# Altium footprint library Würth-Elektronik.PcbLib: 79 footprints (part 1 of 5)
Each footprint in its own frame and in the unit in brackets; x right, y up, seen from the top. Pads: shape width x height; smd on the part's side, far side on the other; paste and mask are expansions set on the pad; w line width, h text height; cw(c..) or ccw(c..) is an arc to the next point about the centre after c.
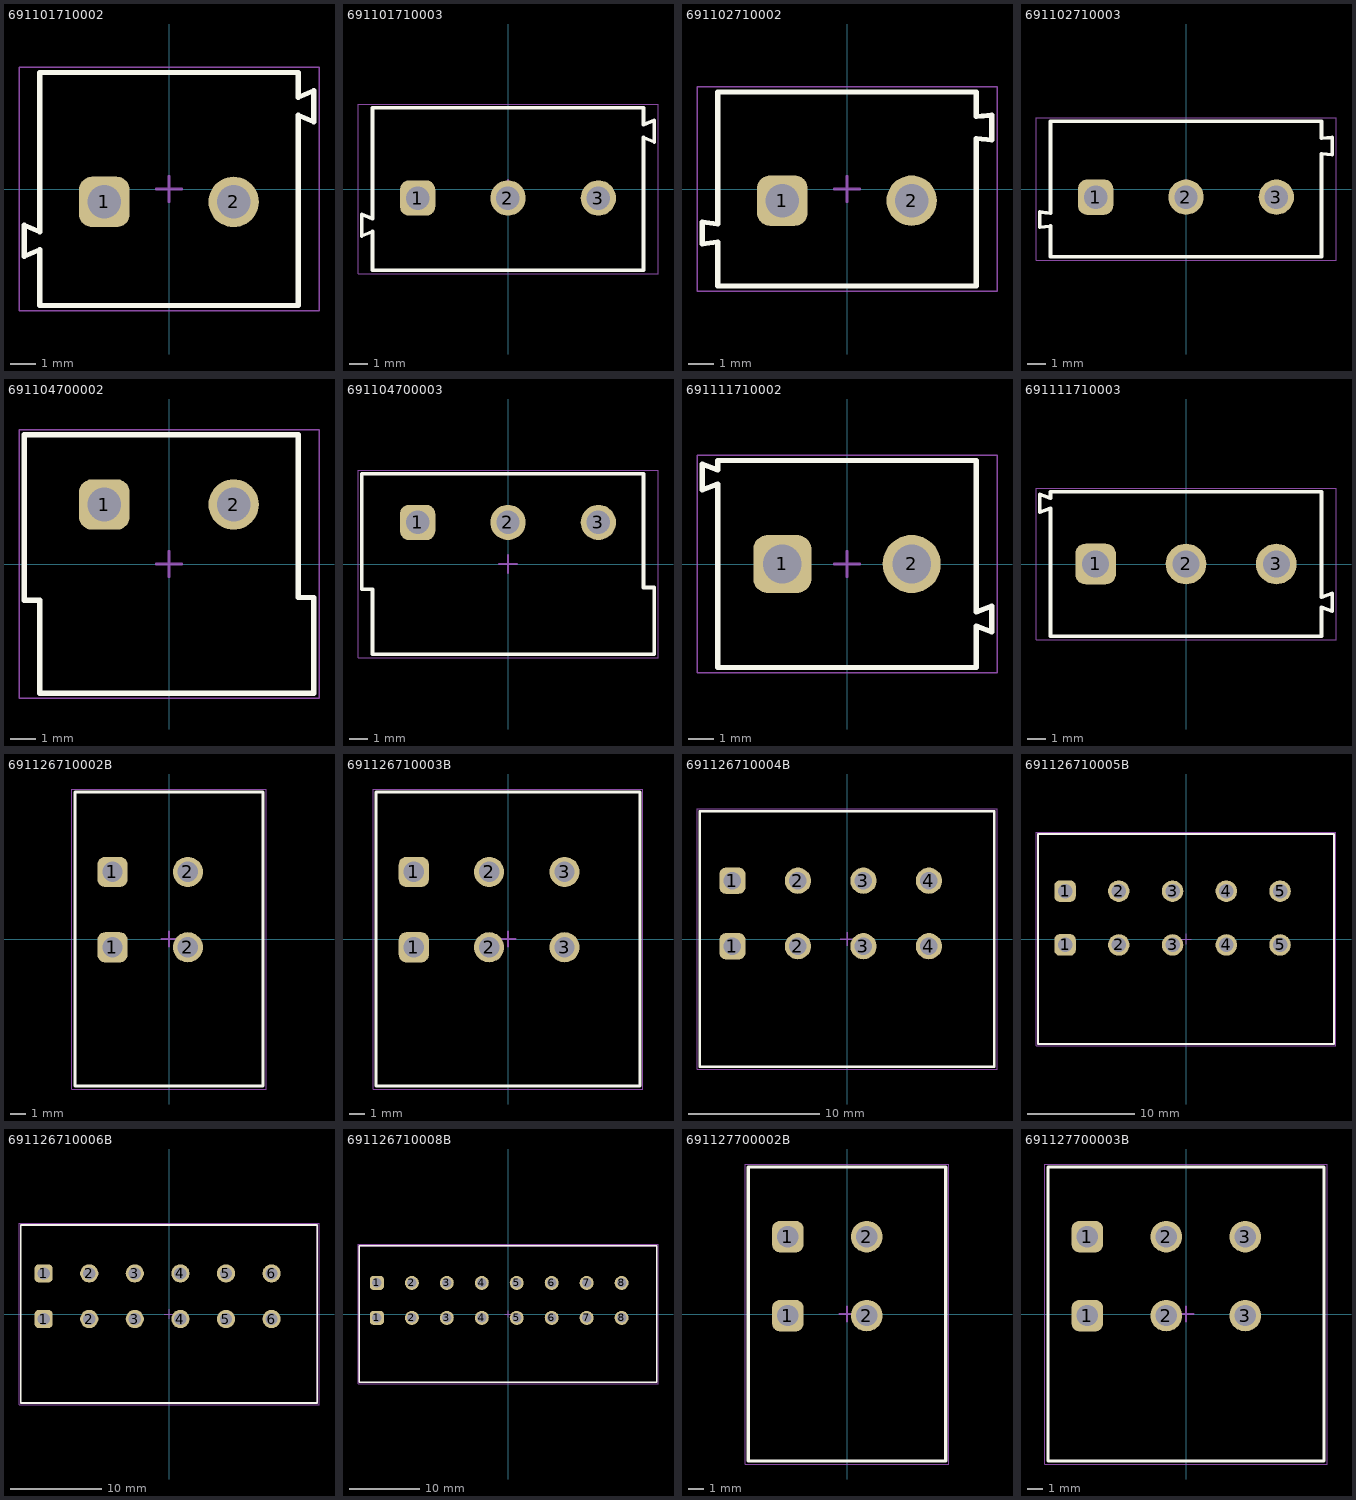
[diagram p0: the footprints below, top view; thin cyan lines are the x and y axes]

## 691101710002 [mm] "5,00mm - modular - blue - Horizontal entry with pressure clamp - 12,6mm height - 02p"
height 12.6
pads (2):
  rrect50% 1.95x1.95 hole 1.3: 1(-2.5,-0.5)
  round 1.95 hole 1.3: 2(2.5,-0.5)
Top Overlay:
  lines w0.2: -5,-2.35 -5.6,-2.6 -5.6,-1.4 -5,-1.65 -5,4.5 5,4.5 5,3.55 5.6,3.8 5.6,2.6 5,2.85 5,-4.5 -5,-4.5 -5,-2.35
Top Courtyard:
  lines w0.05: -5.8,-4.7 5.8,-4.7 5.8,4.7 -5.8,4.7 -5.8,-4.7
Top 3D Body:
  lines w0.1: -5,-2.35 -5.6,-2.6 -5.6,-1.4 -5,-1.65 -5,4.5 5,4.5 5,3.55 5.6,3.8 5.6,2.6 5,2.85 5,-4.5 -5,-4.5 -5,-2.35
Top Assembly:
  lines w0.1: -5,-2.35 -5.6,-2.6 -5.6,-1.4 -5,-1.65 -5,4.5 5,4.5 5,3.55 5.6,3.8 5.6,2.6 5,2.85 5,-4.5 -5,-4.5 -5,-2.35
Top Designator:
  text ".Designator" at -3.647,-0.357 h1
Top Component Center:
  lines w0.1: -0.5,0 0.5,0 ; 0,-0.5 0,0.5
3D body "691101710002.stp": height 12.65, standoff -3.75, extent -5.6,-4.5 5.6,4.5

## 691101710003 [mm] "5,00mm - modular - blue - Horizontal entry with pressure clamp - 12,6mm height - 03p"
height 12.6
pads (3):
  rrect50% 1.95x1.95 hole 1.3: 1(-5,-0.5)
  round 1.95 hole 1.3: 2(0,-0.5) 3(5,-0.5)
Top Overlay:
  lines w0.2: -7.5,-2.35 -8.1,-2.6 -8.1,-1.4 -7.5,-1.65 -7.5,4.5 7.5,4.5 7.5,3.55 8.1,3.8 8.1,2.6 7.5,2.85 7.5,-4.5 -7.5,-4.5 -7.5,-2.35
Top Courtyard:
  lines w0.05: -8.3,-4.7 -8.3,4.7 8.3,4.7 8.3,-4.7 -8.3,-4.7
Top 3D Body:
  lines w0.1: -7.5,-2.35 -8.1,-2.6 -8.1,-1.4 -7.5,-1.65 -7.5,4.5 7.5,4.5 7.5,3.55 8.1,3.8 8.1,2.6 7.5,2.85 7.5,-4.5 -7.5,-4.5 -7.5,-2.35
Top Assembly:
  lines w0.1: -7.5,-2.35 -8.1,-2.6 -8.1,-1.4 -7.5,-1.65 -7.5,4.5 7.5,4.5 7.5,3.55 8.1,3.8 8.1,2.6 7.5,2.85 7.5,-4.5 -7.5,-4.5 -7.5,-2.35
Top Designator:
  text ".Designator" at -3.647,-0.357 h1
Top Component Center:
  lines w0.1: -0.5,0 0.5,0 ; 0,-0.5 0,0.5
3D body "691101710003.stp": height 12.65, standoff -3.75, extent -8.1,-4.5 8.1,4.5

## 691102710002 [mm] "5,00mm - modular - blue - Horizontal entry with pressure clamp - 9,9 mm height - 02p"
height 9.9
pads (2):
  rrect50% 1.95x1.95 hole 1.3: 1(-2.5,-0.45)
  round 1.95 hole 1.3: 2(2.5,-0.45)
Top Overlay:
  lines w0.2: -5.6,-2.125 -5.6,-1.275 -5,-1.35 -5,3.75 5,3.75 5,2.8 5.6,2.85 5.6,1.9 5,1.95 5,-3.75 -5,-3.75 -5,-2.05 -5.6,-2.125
Top Courtyard:
  lines w0.05: -5.8,-3.95 -5.8,3.95 5.8,3.95 5.8,-3.95 -5.8,-3.95
Top 3D Body:
  lines w0.1: -5.6,-2.125 -5.6,-1.275 -5,-1.35 -5,3.75 5,3.75 5,2.8 5.6,2.85 5.6,1.9 5,1.95 5,-3.75 -5,-3.75 -5,-2.05 -5.6,-2.125
Top Assembly:
  lines w0.1: -5.6,-2.125 -5,-2.05 -5,-3.75 5,-3.75 5,1.95 5.6,1.9 5.6,2.85 5,2.8 5,3.75 -5,3.75 -5,-1.35 -5.6,-1.275 -5.6,-2.125
Top Designator:
  text ".Designator" at -3.647,-0.357 h1
Top Component Center:
  lines w0.1: -0.5,0 0.5,0 ; 0,-0.5 0,0.5
3D body "691102710002.stp": height 9.96, standoff -3.44, extent -5.6,-3.75 5.6,3.75

## 691102710003 [mm] "5,00mm - modular - blue - Horizontal entry with pressure clamp - 9,9 mm height - 03p"
height 9.9
pads (3):
  rrect50% 1.95x1.95 hole 1.3: 1(-5,-0.45)
  round 1.95 hole 1.3: 2(0,-0.45) 3(5,-0.45)
Top Overlay:
  lines w0.2: -8.1,-2.125 -8.1,-1.275 -7.5,-1.35 -7.5,3.75 7.5,3.75 7.5,2.8 8.1,2.85 8.1,1.9 7.5,1.95 7.5,-3.75 -7.5,-3.75 -7.5,-2.05 -8.1,-2.125
Top Courtyard:
  lines w0.05: -8.3,-3.95 -8.3,3.95 8.3,3.95 8.3,-3.95 -8.3,-3.95
Top 3D Body:
  lines w0.1: -8.1,-2.125 -8.1,-1.275 -7.5,-1.35 -7.5,3.75 7.5,3.75 7.5,2.8 8.1,2.85 8.1,1.9 7.5,1.95 7.5,-3.75 -7.5,-3.75 -7.5,-2.05 -8.1,-2.125
Top Assembly:
  lines w0.1: -8.1,-2.125 -7.5,-2.05 -7.5,-3.75 7.5,-3.75 7.5,1.95 8.1,1.9 8.1,2.85 7.5,2.8 7.5,3.75 -7.5,3.75 -7.5,-1.35 -8.1,-1.275 -8.1,-2.125
Top Designator:
  text ".Designator" at -3.647,-0.357 h1
Top Component Center:
  lines w0.1: -0.5,0 0.5,0 ; 0,-0.5 0,0.5
3D body "691102710003.stp": height 9.96, standoff -3.44, extent -8.1,-3.75 8.1,3.75

## 691104700002 [mm] ",00mm - modular - blue - Vertical wire entry - Pressure clamp - 02p"
height 10
pads (2):
  rrect50% 1.95x1.95 hole 1.3: 1(-2.5,2.3)
  round 1.95 hole 1.3: 2(2.5,2.3)
Top Overlay:
  lines w0.2: -5.6,-1.4 -5,-1.4 -5,-5 5.6,-5 5.6,-1.3 5,-1.3 5,5 -5.6,5 -5.6,-1.4
Top Courtyard:
  lines w0.05: -5.8,-5.2 -5.8,5.2 5.8,5.2 5.8,-5.2 -5.8,-5.2
Top 3D Body:
  lines w0.1: -5.6,-1.4 -5,-1.4 -5,-5 5.6,-5 5.6,-1.3 5,-1.3 5,5 -5.6,5 -5.6,-1.4
Top Assembly:
  lines w0.1: -5.6,-1.4 -5.6,5 5,5 5,-1.3 5.6,-1.3 5.6,-5 -5,-5 -5,-1.4 -5.6,-1.4
Top Designator:
  text ".Designator" at -3.647,-0.357 h1
Top Component Center:
  lines w0.1: -0.5,0 0.5,0 ; 0,-0.5 0,0.5
3D body "691104700002.stp": height 7.55, standoff -3.75, extent -5.6,-5 5.6,5

## 691104700003 [mm] ",00mm - modular - blue - Vertical wire entry - Pressure clamp - 03p"
height 10
pads (3):
  rrect50% 1.95x1.95 hole 1.3: 1(-5,2.3)
  round 1.95 hole 1.3: 2(0,2.3) 3(5,2.3)
Top Overlay:
  lines w0.2: -8.1,-1.4 -8.1,5 7.5,5 7.5,-1.3 8.1,-1.3 8.1,-5 -7.5,-5 -7.5,-1.4 -8.1,-1.4
Top Courtyard:
  lines w0.05: -8.3,-5.2 -8.3,5.2 8.3,5.2 8.3,-5.2 -8.3,-5.2
Top 3D Body:
  lines w0.1: -8.1,-1.4 -8.1,5 7.5,5 7.5,-1.3 8.1,-1.3 8.1,-5 -7.5,-5 -7.5,-1.4 -8.1,-1.4
Top Assembly:
  lines w0.1: -8.1,-1.4 -7.5,-1.4 -7.5,-5 8.1,-5 8.1,-1.3 7.5,-1.3 7.5,5 -8.1,5 -8.1,-1.4
Top Designator:
  text ".Designator" at -3.647,-0.357 h1
Top Component Center:
  lines w0.1: -0.5,0 0.5,0 ; 0,-0.5 0,0.5
3D body "691104700003.stp": height 7.55, standoff -3.75, extent -8.1,-5 8.1,5

## 691111710002 [mm] "5,00mm - modular - green - Horizontal entry with pressure clamp - 10,0mm height - 02p"
height 10
pads (2):
  rrect50% 2.25x2.25 hole 1.5: 1(-2.5,0)
  round 2.25 hole 1.5: 2(2.5,0)
Top Overlay:
  lines w0.2: -5.6,2.865 -5.6,3.865 -5,3.64 -5,4 5,4 5,-1.85 5.6,-1.625 5.6,-2.625 5,-2.4 5,-4 -5,-4 -5,3.09 -5.6,2.865
Top Courtyard:
  lines w0.05: -5.8,-4.2 5.8,-4.2 5.8,4.2 -5.8,4.2 -5.8,-4.2
Top 3D Body:
  lines w0.1: -5.6,2.865 -5.6,3.865 -5,3.64 -5,4 5,4 5,-1.85 5.6,-1.625 5.6,-2.625 5,-2.4 5,-4 -5,-4 -5,3.09 -5.6,2.865
Top Assembly:
  lines w0.1: -5.6,2.865 -5,3.09 -5,-4 5,-4 5,-2.4 5.6,-2.625 5.6,-1.625 5,-1.85 5,4 -5,4 -5,3.64 -5.6,3.865 -5.6,2.865
Top Designator:
  text ".Designator" at -3.647,-0.357 h1
Top Component Center:
  lines w0.1: -0.5,0 0.5,0 ; 0,-0.5 0,0.5
3D body "691111710002.stp": height 11.05, standoff -3.95, extent -5.6,-4 5.6,4

## 691111710003 [mm] "5,00mm - modular - green - Horizontal entry with pressure clamp - 10,0mm height - 03p"
height 10
pads (3):
  rrect50% 2.25x2.25 hole 1.5: 1(-5,0)
  round 2.25 hole 1.5: 2(0,0) 3(5,0)
Top Overlay:
  lines w0.2: -8.1,2.865 -7.5,3.09 -7.5,-4 7.5,-4 7.5,-2.4 8.1,-2.625 8.1,-1.625 7.5,-1.85 7.5,4 -7.5,4 -7.5,3.64 -8.1,3.865 -8.1,2.865
Top Courtyard:
  lines w0.05: -8.3,-4.2 -8.3,4.2 8.3,4.2 8.3,-4.2 -8.3,-4.2
Top 3D Body:
  lines w0.1: -8.1,2.865 -7.5,3.09 -7.5,-4 7.5,-4 7.5,-2.4 8.1,-2.625 8.1,-1.625 7.5,-1.85 7.5,4 -7.5,4 -7.5,3.64 -8.1,3.865 -8.1,2.865
Top Assembly:
  lines w0.1: -8.1,2.865 -8.1,3.865 -7.5,3.64 -7.5,4 7.5,4 7.5,-1.85 8.1,-1.625 8.1,-2.625 7.5,-2.4 7.5,-4 -7.5,-4 -7.5,3.09 -8.1,2.865
Top Designator:
  text ".Designator" at -3.647,-0.357 h1
Top Component Center:
  lines w0.1: -0.5,0 0.5,0 ; 0,-0.5 0,0.5
3D body "691111710003.stp": height 11.05, standoff -3.95, extent -8.1,-4 8.1,4

## 691126710002B [mm] "5,00 mm - PCB Horizontal - 02p"
height 18.6
pads (4):
  rrect50% 2x2 hole 1.35: 1(-3.75,-0.55) 1(-3.75,4.45)
  round 2 hole 1.35: 2(1.25,-0.55) 2(1.25,4.45)
Top Overlay:
  lines w0.2: -6.25,-9.75 -6.25,9.75 6.25,9.75 6.25,-9.75 -6.25,-9.75
Top Courtyard:
  lines w0.05: -6.45,-9.95 -6.45,9.95 6.45,9.95 6.45,-9.95 -6.45,-9.95
Top 3D Body:
  lines w0.1: -6.25,-9.75 -6.25,9.75 6.25,9.75 6.25,-9.75 -6.25,-9.75
Top Assembly:
  lines w0.1: -6.25,-9.75 6.25,-9.75 6.25,9.75 -6.25,9.75 -6.25,-9.75
Top Designator:
  text ".Designator" at -3.647,-0.357 h1
Top Component Center:
  lines w0.1: -0.5,0 0.5,0 ; 0,-0.5 0,0.5
3D body "691126710002B.stp": height 18.7, standoff -3.4, extent -6.25,-9.75 6.25,9.75

## 691126710003B [mm] "5,00 mm - PCB Horizontal - 03p"
height 18.6
pads (6):
  rrect50% 2x2 hole 1.35: 1(-6.25,-0.55) 1(-6.25,4.45)
  round 2 hole 1.35: 2(-1.25,-0.55) 2(-1.25,4.45) 3(3.75,-0.55) 3(3.75,4.45)
Top Overlay:
  lines w0.2: -8.75,-9.75 -8.75,9.75 8.75,9.75 8.75,-9.75 -8.75,-9.75
Top Courtyard:
  lines w0.05: -8.95,-9.95 -8.95,9.95 8.95,9.95 8.95,-9.95 -8.95,-9.95
Top 3D Body:
  lines w0.1: -8.75,-9.75 -8.75,9.75 8.75,9.75 8.75,-9.75 -8.75,-9.75
Top Assembly:
  lines w0.1: -8.75,-9.75 8.75,-9.75 8.75,9.75 -8.75,9.75 -8.75,-9.75
Top Designator:
  text ".Designator" at -3.647,-0.357 h1
Top Component Center:
  lines w0.1: -0.5,0 0.5,0 ; 0,-0.5 0,0.5
3D body "691126710003B.stp": height 18.7, standoff -3.4, extent -8.75,-9.75 8.75,9.75

## 691126710004B [mm] "5,00 mm - PCB Horizontal - 04p"
height 18.6
pads (8):
  rrect50% 2x2 hole 1.35: 1(-8.75,-0.55) 1(-8.75,4.45)
  round 2 hole 1.35: 2(-3.75,-0.55) 2(-3.75,4.45) 3(1.25,-0.55) 3(1.25,4.45) 4(6.25,-0.55) 4(6.25,4.45)
Top Overlay:
  lines w0.2: -11.25,-9.75 11.25,-9.75 11.25,9.75 -11.25,9.75 -11.25,-9.75
Top Courtyard:
  lines w0.05: -11.45,-9.95 11.45,-9.95 11.45,9.95 -11.45,9.95 -11.45,-9.95
Top 3D Body:
  lines w0.1: -11.25,-9.75 11.25,-9.75 11.25,9.75 -11.25,9.75 -11.25,-9.75
Top Assembly:
  lines w0.1: -11.25,-9.75 -11.25,9.75 11.25,9.75 11.25,-9.75 -11.25,-9.75
Top Designator:
  text ".Designator" at -3.647,-0.357 h1
Top Component Center:
  lines w0.1: -0.5,0 0.5,0 ; 0,-0.5 0,0.5
3D body "691126710004B.stp": height 18.7, standoff -3.4, extent -11.25,-9.75 11.25,9.75

## 691126710005B [mm] "5,00 mm - PCB Horizontal - 05p"
height 18.6
pads (10):
  rrect50% 2x2 hole 1.35: 1(-11.25,-0.55) 1(-11.25,4.45)
  round 2 hole 1.35: 2(-6.25,-0.55) 2(-6.25,4.45) 3(-1.25,-0.55) 3(-1.25,4.45) 4(3.75,-0.55) 4(3.75,4.45) 5(8.75,-0.55) 5(8.75,4.45)
Top Overlay:
  lines w0.2: -13.75,-9.75 13.75,-9.75 13.75,9.75 -13.75,9.75 -13.75,-9.75
Top Courtyard:
  lines w0.05: -13.95,-9.95 13.95,-9.95 13.95,9.95 -13.95,9.95 -13.95,-9.95
Top 3D Body:
  lines w0.1: -13.75,-9.75 13.75,-9.75 13.75,9.75 -13.75,9.75 -13.75,-9.75
Top Assembly:
  lines w0.1: -13.75,-9.75 -13.75,9.75 13.75,9.75 13.75,-9.75 -13.75,-9.75
Top Designator:
  text ".Designator" at -3.647,-0.357 h1
Top Component Center:
  lines w0.1: -0.5,0 0.5,0 ; 0,-0.5 0,0.5
3D body "691126710005B.stp": height 18.7, standoff -3.4, extent -13.75,-9.75 13.75,9.75

## 691126710006B [mm] "5,00 mm - PCB Horizontal - 06p"
height 18.6
pads (12):
  rrect50% 2x2 hole 1.35: 1(-13.75,-0.55) 1(-13.75,4.45)
  round 2 hole 1.35: 2(-8.75,-0.55) 2(-8.75,4.45) 3(-3.75,-0.55) 3(-3.75,4.45) 4(1.25,-0.55) 4(1.25,4.45) 5(6.25,-0.55) 5(6.25,4.45) 6(11.25,-0.55) 6(11.25,4.45)
Top Overlay:
  lines w0.2: -16.25,-9.75 16.25,-9.75 16.25,9.75 -16.25,9.75 -16.25,-9.75
Top Courtyard:
  lines w0.05: -16.45,-9.95 16.45,-9.95 16.45,9.95 -16.45,9.95 -16.45,-9.95
Top 3D Body:
  lines w0.1: -16.25,-9.75 16.25,-9.75 16.25,9.75 -16.25,9.75 -16.25,-9.75
Top Assembly:
  lines w0.1: -16.25,-9.75 -16.25,9.75 16.25,9.75 16.25,-9.75 -16.25,-9.75
Top Designator:
  text ".Designator" at -3.647,-0.357 h1
Top Component Center:
  lines w0.1: -0.5,0 0.5,0 ; 0,-0.5 0,0.5
3D body "691126710006B.stp": height 18.7, standoff -3.4, extent -16.25,-9.75 16.25,9.75

## 691126710008B [mm] "5,00 mm - PCB Horizontal - 08p"
height 18.6
pads (16):
  rrect50% 2x2 hole 1.35: 1(-18.75,-0.55) 1(-18.75,4.45)
  round 2 hole 1.35: 2(-13.75,-0.55) 2(-13.75,4.45) 3(-8.75,-0.55) 3(-8.75,4.45) 4(-3.75,-0.55) 4(-3.75,4.45) 5(1.25,-0.55) 5(1.25,4.45) 6(6.25,-0.55) 6(6.25,4.45) 7(11.25,-0.55) 7(11.25,4.45) 8(16.25,-0.55) 8(16.25,4.45)
Top Overlay:
  lines w0.2: -21.25,-9.75 21.25,-9.75 21.25,9.75 -21.25,9.75 -21.25,-9.75
Top Courtyard:
  lines w0.05: -21.45,-9.95 21.45,-9.95 21.45,9.95 -21.45,9.95 -21.45,-9.95
Top 3D Body:
  lines w0.1: -21.25,-9.75 21.25,-9.75 21.25,9.75 -21.25,9.75 -21.25,-9.75
Top Assembly:
  lines w0.1: -21.25,-9.75 -21.25,9.75 21.25,9.75 21.25,-9.75 -21.25,-9.75
Top Designator:
  text ".Designator" at -3.647,-0.357 h1
Top Component Center:
  lines w0.1: -0.5,0 0.5,0 ; 0,-0.5 0,0.5
3D body "691126710008B.stp": height 18.7, standoff -3.4, extent -21.25,-9.75 21.25,9.75

## 691127700002B [mm] "5,00 mm - PCB Vertical - 02p"
height 19.5
pads (4):
  rrect50% 2x2 hole 1.35: 1(-3.75,-0.1) 1(-3.75,4.9)
  round 2 hole 1.35: 2(1.25,-0.1) 2(1.25,4.9)
Top Overlay:
  lines w0.2: -6.25,-9.3 6.25,-9.3 6.25,9.3 -6.25,9.3 -6.25,-9.3
Top Courtyard:
  lines w0.05: -6.45,-9.5 -6.45,9.5 6.45,9.5 6.45,-9.5 -6.45,-9.5
Top 3D Body:
  lines w0.1: -6.25,-9.3 6.25,-9.3 6.25,9.3 -6.25,9.3 -6.25,-9.3
Top Assembly:
  lines w0.1: -6.25,-9.3 -6.25,9.3 6.25,9.3 6.25,-9.3 -6.25,-9.3
Top Designator:
  text ".Designator" at -3.647,-0.357 h1
Top Component Center:
  lines w0.1: -0.5,0 0.5,0 ; 0,-0.5 0,0.5
3D body "691127700002B.stp": height 19.6, standoff -3.4, extent -6.25,-9.3 6.25,9.3

## 691127700003B [mm] "5,00 mm - PCB Vertical - 03p"
height 19.5
pads (6):
  rrect50% 2x2 hole 1.35: 1(-6.25,-0.1) 1(-6.25,4.9)
  round 2 hole 1.35: 2(-1.25,-0.1) 2(-1.25,4.9) 3(3.75,-0.1) 3(3.75,4.9)
Top Overlay:
  lines w0.2: -8.75,-9.3 8.75,-9.3 8.75,9.3 -8.75,9.3 -8.75,-9.3
Top Courtyard:
  lines w0.05: -8.95,-9.5 -8.95,9.5 8.95,9.5 8.95,-9.5 -8.95,-9.5
Top 3D Body:
  lines w0.1: -8.75,-9.3 8.75,-9.3 8.75,9.3 -8.75,9.3 -8.75,-9.3
Top Assembly:
  lines w0.1: -8.75,-9.3 -8.75,9.3 8.75,9.3 8.75,-9.3 -8.75,-9.3
Top Designator:
  text ".Designator" at -3.647,-0.357 h1
Top Component Center:
  lines w0.1: -0.5,0 0.5,0 ; 0,-0.5 0,0.5
3D body "691127700003B.stp": height 19.6, standoff -3.4, extent -8.75,-9.3 8.75,9.3